# Altium footprint library TFM-120-02-L-D-WT.PcbLib: 1 footprints
Each footprint in its own frame and in the unit in brackets; x right, y up, seen from the top. Pads: shape width x height; smd on the part's side, far side on the other; paste and mask are expansions set on the pad; w line width, h text height; cw(c..) or ccw(c..) is an arc to the next point about the centre after c.
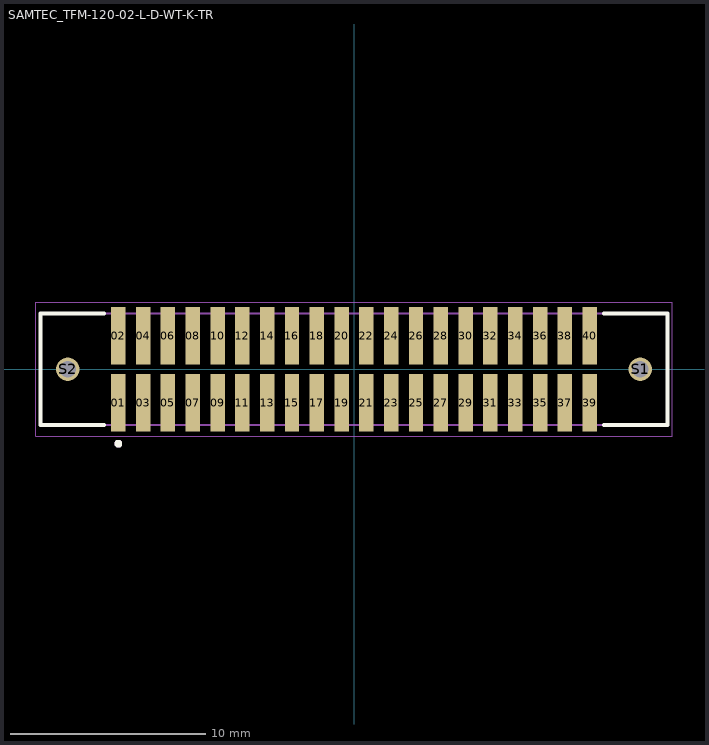
[diagram p0: the footprint, top view; thin cyan lines are the x and y axes]

## SAMTEC_TFM-120-02-L-D-WT-K-TR [mm]
pads (42):
  rect 0.74x2.92 smd: 01(-12.065,-1.715) 02(-12.065,1.715) 03(-10.795,-1.715) 04(-10.795,1.715) 05(-9.525,-1.715) 06(-9.525,1.715) 07(-8.255,-1.715) 08(-8.255,1.715) 09(-6.985,-1.715) 10(-6.985,1.715) 11(-5.715,-1.715) 12(-5.715,1.715) 13(-4.445,-1.715) 14(-4.445,1.715) 15(-3.175,-1.715) 16(-3.175,1.715) 17(-1.905,-1.715) 18(-1.905,1.715) 19(-0.635,-1.715) 20(-0.635,1.715) 21(0.635,-1.715) 22(0.635,1.715) 23(1.905,-1.715) 24(1.905,1.715) 25(3.175,-1.715) 26(3.175,1.715) 27(4.445,-1.715) 28(4.445,1.715) 29(5.715,-1.715) 30(5.715,1.715) 31(6.985,-1.715) 32(6.985,1.715) 33(8.255,-1.715) 34(8.255,1.715) 35(9.525,-1.715) 36(9.525,1.715) 37(10.795,-1.715) 38(10.795,1.715) 39(12.065,-1.715) 40(12.065,1.715)
  round 1.19 hole 0.84: S1(14.655,0) S2(-14.655,0)
Top Overlay:
  circle w0.2: c-12.065,-3.81 r0.1
  lines w0.2: -12.785,-2.86 -16.04,-2.86 -16.04,2.86 -12.785,2.86 ; 12.785,-2.86 16.04,-2.86 16.04,2.86 12.785,2.86
Top Paste:
  circle w0.955: c-14.655,0 r0.477
  circle w0.955: c14.655,0 r0.477
Mechanical 13:
  circle w0.2: c-12.065,-3.81 r0.1
  lines w0.1: -16.04,-2.86 16.04,-2.86 16.04,2.86 -16.04,2.86 -16.04,-2.86
Mechanical 15:
  lines w0.05: -16.29,-3.425 16.29,-3.425 16.29,3.425 -16.29,3.425 -16.29,-3.425